# Altium schematic symbol library SPV1050TTR.SchLib: 2 symbols
Pins are listed as number, name and electrical type; pins without a type are passive.

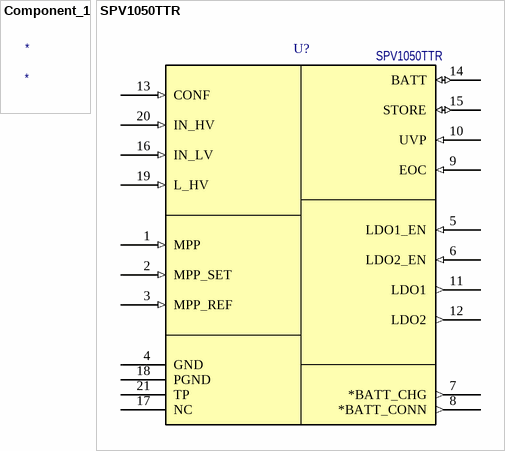
[diagram p0: symbols Component_1 to SPV1050TTR]

## Component_1
designator *

## SPV1050TTR
designator U?
Ultralow power energy harvester and battery charger; Потребление, Вт: 0.001; Назначение: Ultralow power energy harvester and battery charger; ComponentLink1Description: DataSheet; ComponentLink1URL: https://www.st.com/resource/en/datasheet/spv1050.pdf; Наименование: SPV1050TTR
footprint VFQFN-20 (QFN, 20-Leads, Body 3,00x3,00mm, Pitch 0,35mm/0,45mm, Thermal Pad 1,75x1,75mm, IPC Medium Density)
pins: 1 MPP (in), 2 MPP_SET (in), 3 MPP_REF (in), 4 GND (power), 5 LDO1_EN (in), 6 LDO2_EN (in), 7 *BATT_CHG (out), 8 *BATT_CONN (out), 9 EOC (in), 10 UVP (in), 11 LDO1 (out), 12 LDO2 (out), 13 CONF (in), 14 BATT (io), 15 STORE (io), 16 IN_LV (in), 17 NC, 18 PGND (power), 19 L_HV (in), 20 IN_HV (in), 21 TP (power)